# EAGLE library part DISP_OLED_UG-2832HSWEG02 (library MTM_untested)
128x32 I2C 0.91" Monochrome OLED Display
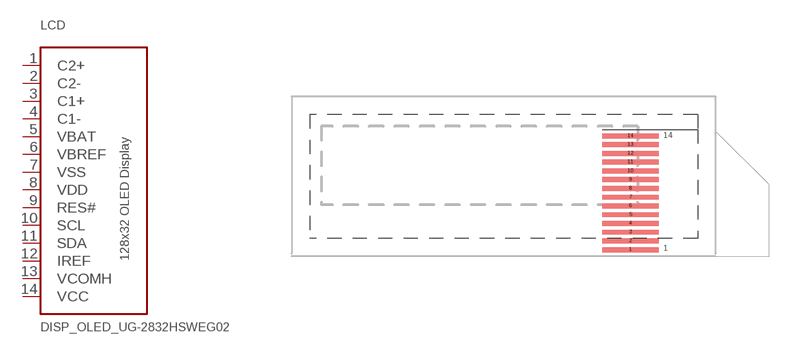
[diagram p7: symbol with the pads of UG-2832HSWEG02_TOPMOUNT; footprint UG-2832HSWEG02_TOPMOUNT]

Designator prefix LCD

## DISP_OLED_UG-2832HSWEG02  [UG-2832HSWEG02_TOPMOUNT]
1  C2+
2  C2-
3  C1+
4  C1-
5  VBAT  pwr
6  VBREF  pwr
7  VSS  pwr
8  VDD  pwr
9  RES#
10  SCL
11  SDA
12  IREF
13  VCOMH  pwr
14  VCC  pwr

## Footprint UG-2832HSWEG02_TOPMOUNT (pad centres in mm)
smd 4 x 0.35: 1 -6,0.47; 2 -6,1.09; 3 -6,1.71; 4 -6,2.33; 5 -6,2.95; 6 -6,3.57; 7 -6,4.19; 8 -6,4.81; 9 -6,5.43; 10 -6,6.05; 11 -6,6.67; 12 -6,7.29; 13 -6,7.91; 14 -6,8.53